# EAGLE library part CON_PINHD-2X7 (library akita)
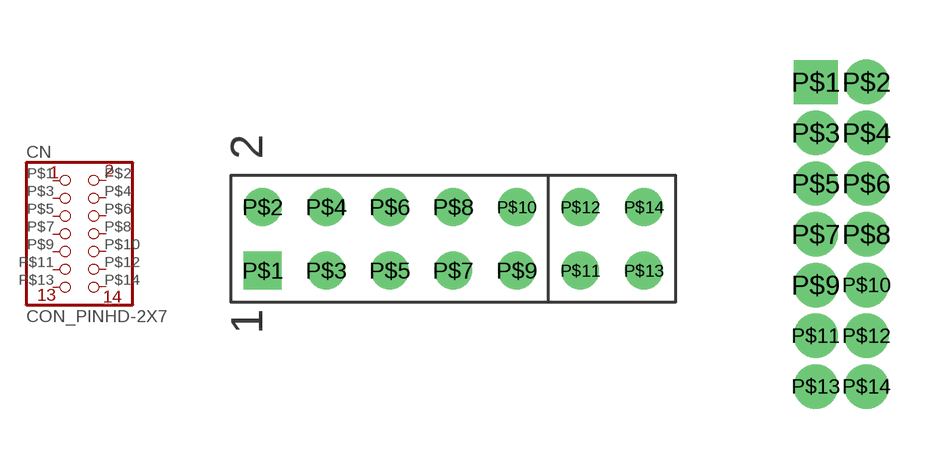
[diagram p103: symbol with the pads of 2X7R; footprints 2X7R, 2X7_50MIL]

Designator prefix CN

## CON_PINHD-2X7R  [2X7R]
P$1  1  pas
P$2  2  pas
P$3  3  pas
P$4  4  pas
P$5  5  pas
P$6  6  pas
P$7  7  pas
P$8  8  pas
P$9  9  pas
P$10  10  pas
P$11  11  pas
P$12  12  pas
P$13  13  pas
P$14  14  pas

## CON_PINHD-2X750MIL  [2X7_50MIL]
Pads as for 2X7R

## CON_PINHD-2X7  [2X7_2MM]
Pads as for 2X7R

## Footprint 2X7R (pad centres in mm)
drill 1 square: P$1 -7.62,-1.27
drill 1: P$2 -7.62,1.27; P$3 -5.08,-1.27; P$4 -5.08,1.27; P$5 -2.54,-1.27; P$6 -2.54,1.27; P$7 0,-1.27; P$8 0,1.27; P$9 2.54,-1.27; P$10 2.54,1.27; P$11 5.08,-1.27; P$12 5.08,1.27; P$13 7.62,-1.27; P$14 7.62,1.27

## Footprint 2X7_50MIL (pad centres in mm)
drill 0.6 square: P$1 -0.635,3.81
drill 0.6: P$2 0.635,3.81; P$3 -0.635,2.54; P$4 0.635,2.54; P$5 -0.635,1.27; P$6 0.635,1.27; P$7 -0.635,0; P$8 0.635,0; P$9 -0.635,-1.27; P$10 0.635,-1.27; P$11 -0.635,-2.54; P$12 0.635,-2.54; P$13 -0.635,-3.81; P$14 0.635,-3.81

## Footprint 2X7_2MM (pad centres in mm)
2x7, 2mm
drill 0.7 square: P$1 -6,-1
drill 0.7: P$2 -6,1; P$3 -4,-1; P$4 -4,1; P$5 -2,-1; P$6 -2,1; P$7 0,-1; P$8 0,1; P$9 2,-1; P$10 2,1; P$11 4,-1; P$12 4,1; P$13 6,-1; P$14 6,1